# Altium footprint library Test_point.PcbLib: 2 footprints
Each footprint in its own frame and in the unit in brackets; x right, y up, seen from the top. Pads: shape width x height; smd on the part's side, far side on the other; paste and mask are expansions set on the pad; w line width, h text height; cw(c..) or ccw(c..) is an arc to the next point about the centre after c.
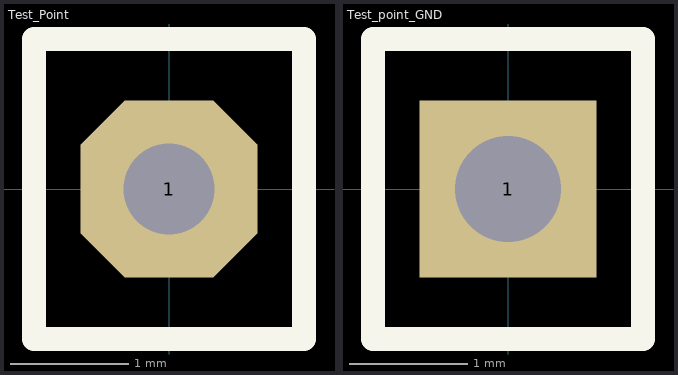
[diagram p0: the footprints below, top view; thin cyan lines are the x and y axes]

## Test_Point [mm]
pads (1):
  oct 1.5x1.5 hole 0.77: 1(0,0)
Top Overlay:
  lines w0.2: -1.143,-1.27 1.143,-1.27 1.143,1.27 -1.143,1.27 -1.143,-1.27

## Test_point_GND [mm]
pads (1):
  rect 1.5x1.5 hole 0.9: 1(0,0)
Top Overlay:
  lines w0.2: -1.143,-1.27 -1.143,1.27 1.143,1.27 1.143,-1.27 -1.143,-1.27